# EAGLE library part TEA2209T_1J (library TEA2209T_1J)
Bridge Rectifiers TEA2209T Source: Datasheet <https://www.nxp.com/docs/en/data-sheet/TEA2209T.pdf>
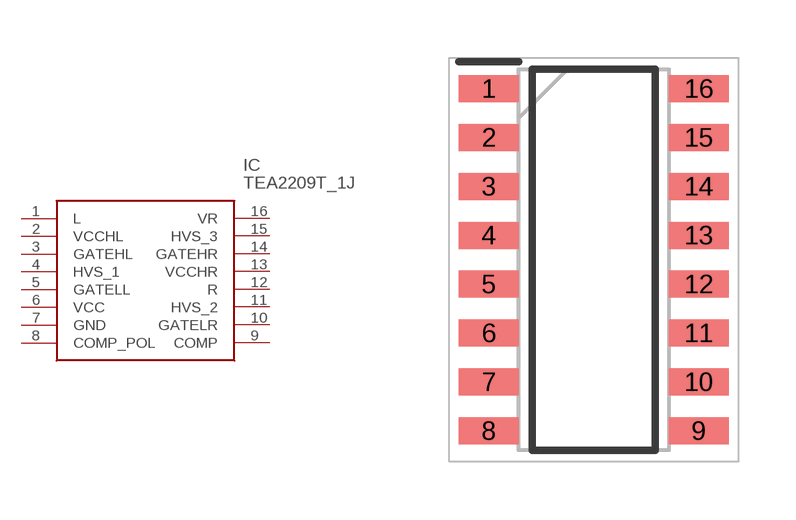
[diagram p0: symbol with the pads of SOIC127P600X175-16N; footprint SOIC127P600X175-16N]

Designator prefix IC

## TEA2209T_1J (Description: Bridge Rectifiers TEA2209T; Height: 1.75mm; Manufacturer_Name: NXP; Manufacturer_Part_Number: TEA2209T/1J)  [SOIC127P600X175-16N]
1  L
2  VCCHL
3  GATEHL
4  HVS_1
5  GATELL
6  VCC
7  GND
8  COMP_POL
9  COMP
10  GATELR
11  HVS_2
12  R
13  VCCHR
14  GATEHR
15  HVS_3
16  VR

## Footprint SOIC127P600X175-16N (pad centres in mm)
SOT109-1 (SO16)
smd 1.55 x 0.7: 1 -2.725,4.445; 2 -2.725,3.175; 3 -2.725,1.905; 4 -2.725,0.635; 5 -2.725,-0.635; 6 -2.725,-1.905; 7 -2.725,-3.175; 8 -2.725,-4.445; 9 2.725,-4.445; 10 2.725,-3.175; 11 2.725,-1.905; 12 2.725,-0.635; 13 2.725,0.635; 14 2.725,1.905; 15 2.725,3.175; 16 2.725,4.445